# Altium footprint library KitDemov2.PcbLib: 49 footprints (part 4 of 4)
Each footprint in its own frame and in the unit in brackets; x right, y up, seen from the top. Pads: shape width x height; smd on the part's side, far side on the other; paste and mask are expansions set on the pad; w line width, h text height; cw(c..) or ccw(c..) is an arc to the next point about the centre after c.
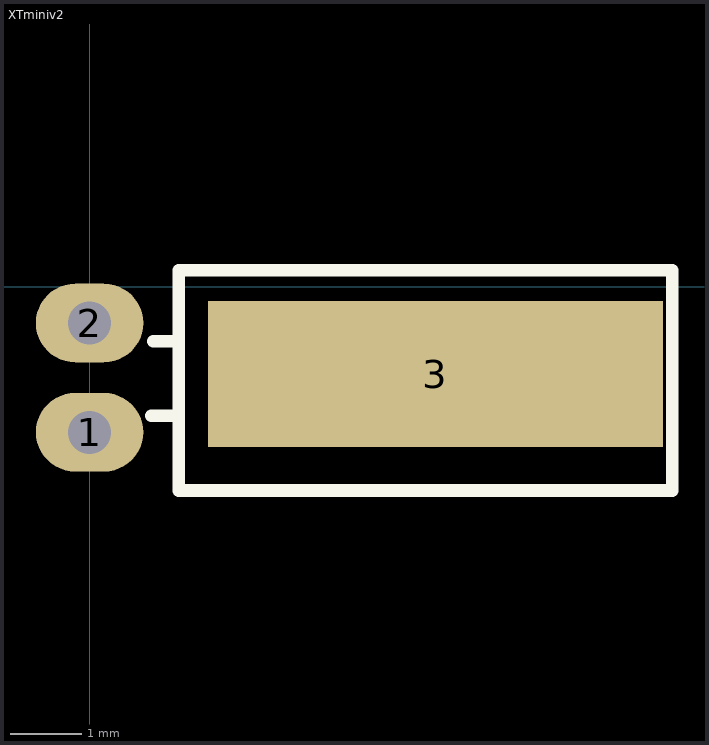
[diagram p3: the footprint, top view; thin cyan lines are the x and y axes]

## XTminiv2 [mm]
pads (3):
  oval 1.5x1.1 hole 0.6 unplated: 1(0,-2.032) 2(0,-0.508)
  rect 6.35x2.032 smd: 3(4.826,-1.219)
Top Overlay:
  lines w0.178: 0.864,-1.803 1.245,-1.803 ; 0.889,-0.762 1.245,-0.762 1.245,0.229 8.128,0.229 8.128,-2.845 1.245,-2.845 1.245,0.025